# Altium footprint library TypeCconn.PcbLib: 1 footprints
Each footprint in its own frame and in the unit in brackets; x right, y up, seen from the top. Pads: shape width x height; smd on the part's side, far side on the other; paste and mask are expansions set on the pad; w line width, h text height; cw(c..) or ccw(c..) is an arc to the next point about the centre after c.
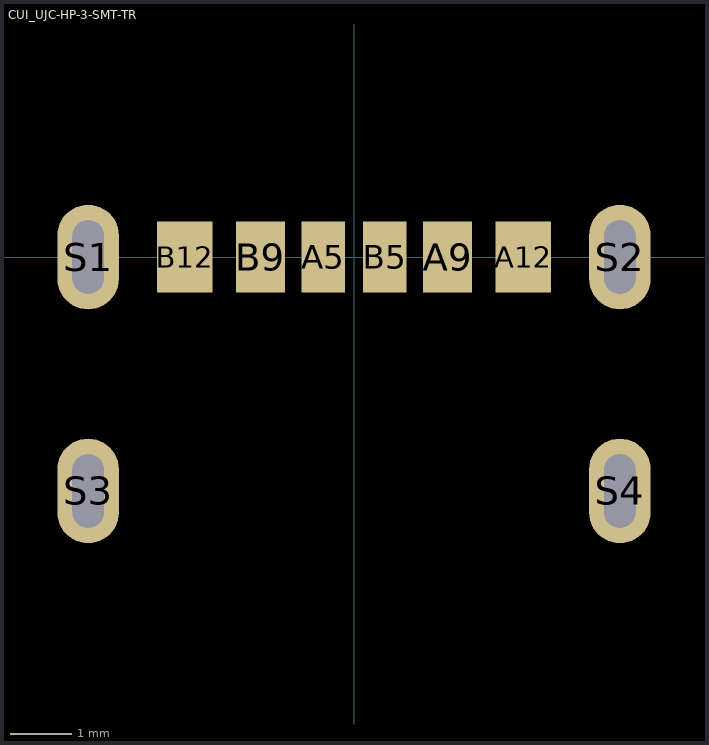
[diagram p0: the footprint, top view; thin cyan lines are the x and y axes]

## CUI_UJC-HP-3-SMT-TR [mm]
pads (10):
  rect 0.7x1.15 smd: A5(-0.5,0) B5(0.5,0)
  rect 0.8x1.15 smd: A9(1.52,0) B9(-1.52,0)
  rect 0.9x1.15 smd: A12(2.75,0) B12(-2.75,0)
  oval 1x1.7 hole 1.2 slot 0.51 at 0 deg unplated: S1(-4.32,0) S2(4.32,0) S3(-4.32,-3.8) S4(4.32,-3.8)
Bottom Solder:
  drawing of 4 lines, arcs and shapes, not listed
3D body "UJC-HP-3-SMT-TR--3DModel-STEP-56544.STEP": height 3.26, standoff -1, extent -4.47,-6.4 4.47,0.5